# EAGLE library part TCL5940 (library tcl5940)
16-Channel 12-Bit LED Driver
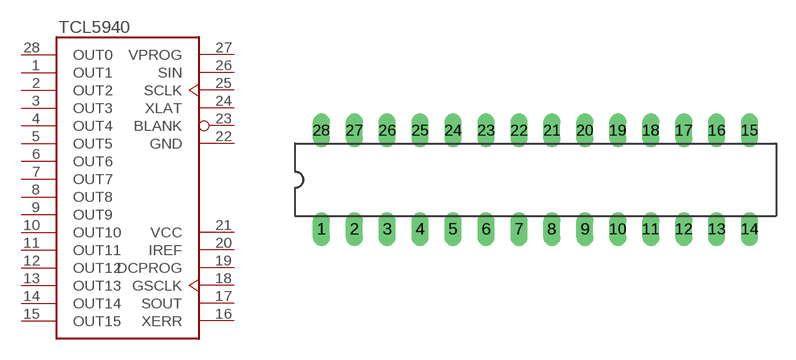
[diagram p0: symbol with the pads of DIP28; footprint DIP28]

Designator prefix IC

## TCL5940  [DIP28]
1  OUT1  out
2  OUT2  out
3  OUT3  out
4  OUT4  out
5  OUT5  out
6  OUT6  out
7  OUT7  out
8  OUT8  out
9  OUT9  out
10  OUT10  out
11  OUT11  out
12  OUT12  out
13  OUT13  out
14  OUT14  out
15  OUT15  out
16  XERR  out
17  SOUT  out
18  GSCLK  in
19  DCPROG  in
20  IREF  in
21  VCC  pwr
22  GND  pwr
23  BLANK  in
24  XLAT  in
25  SCLK  in
26  SIN  in
27  VPROG
28  OUT0  out

## Footprint DIP28 (pad centres in mm)
Dil28 Package
drill 0.813 long: 1 -15.24,-3.81; 2 -12.7,-3.81; 3 -10.16,-3.81; 4 -7.62,-3.81; 5 -5.08,-3.81; 6 -2.54,-3.81; 7 0,-3.81; 8 2.54,-3.81; 9 5.08,-3.81; 10 7.62,-3.81; 11 10.16,-3.81; 12 12.7,-3.81; 13 15.24,-3.81; 14 17.78,-3.81; 15 17.78,3.81; 16 15.24,3.81; 17 12.7,3.81; 18 10.16,3.81; 19 7.62,3.81; 20 5.08,3.81; 21 2.54,3.81; 22 0,3.81; 23 -2.54,3.81; 24 -5.08,3.81; 25 -7.62,3.81; 26 -10.16,3.81; 27 -12.7,3.81; 28 -15.24,3.81